# Altium integrated library National Semiconductor Switcher.IntLib: 2226 symbols (part 26 of 59)
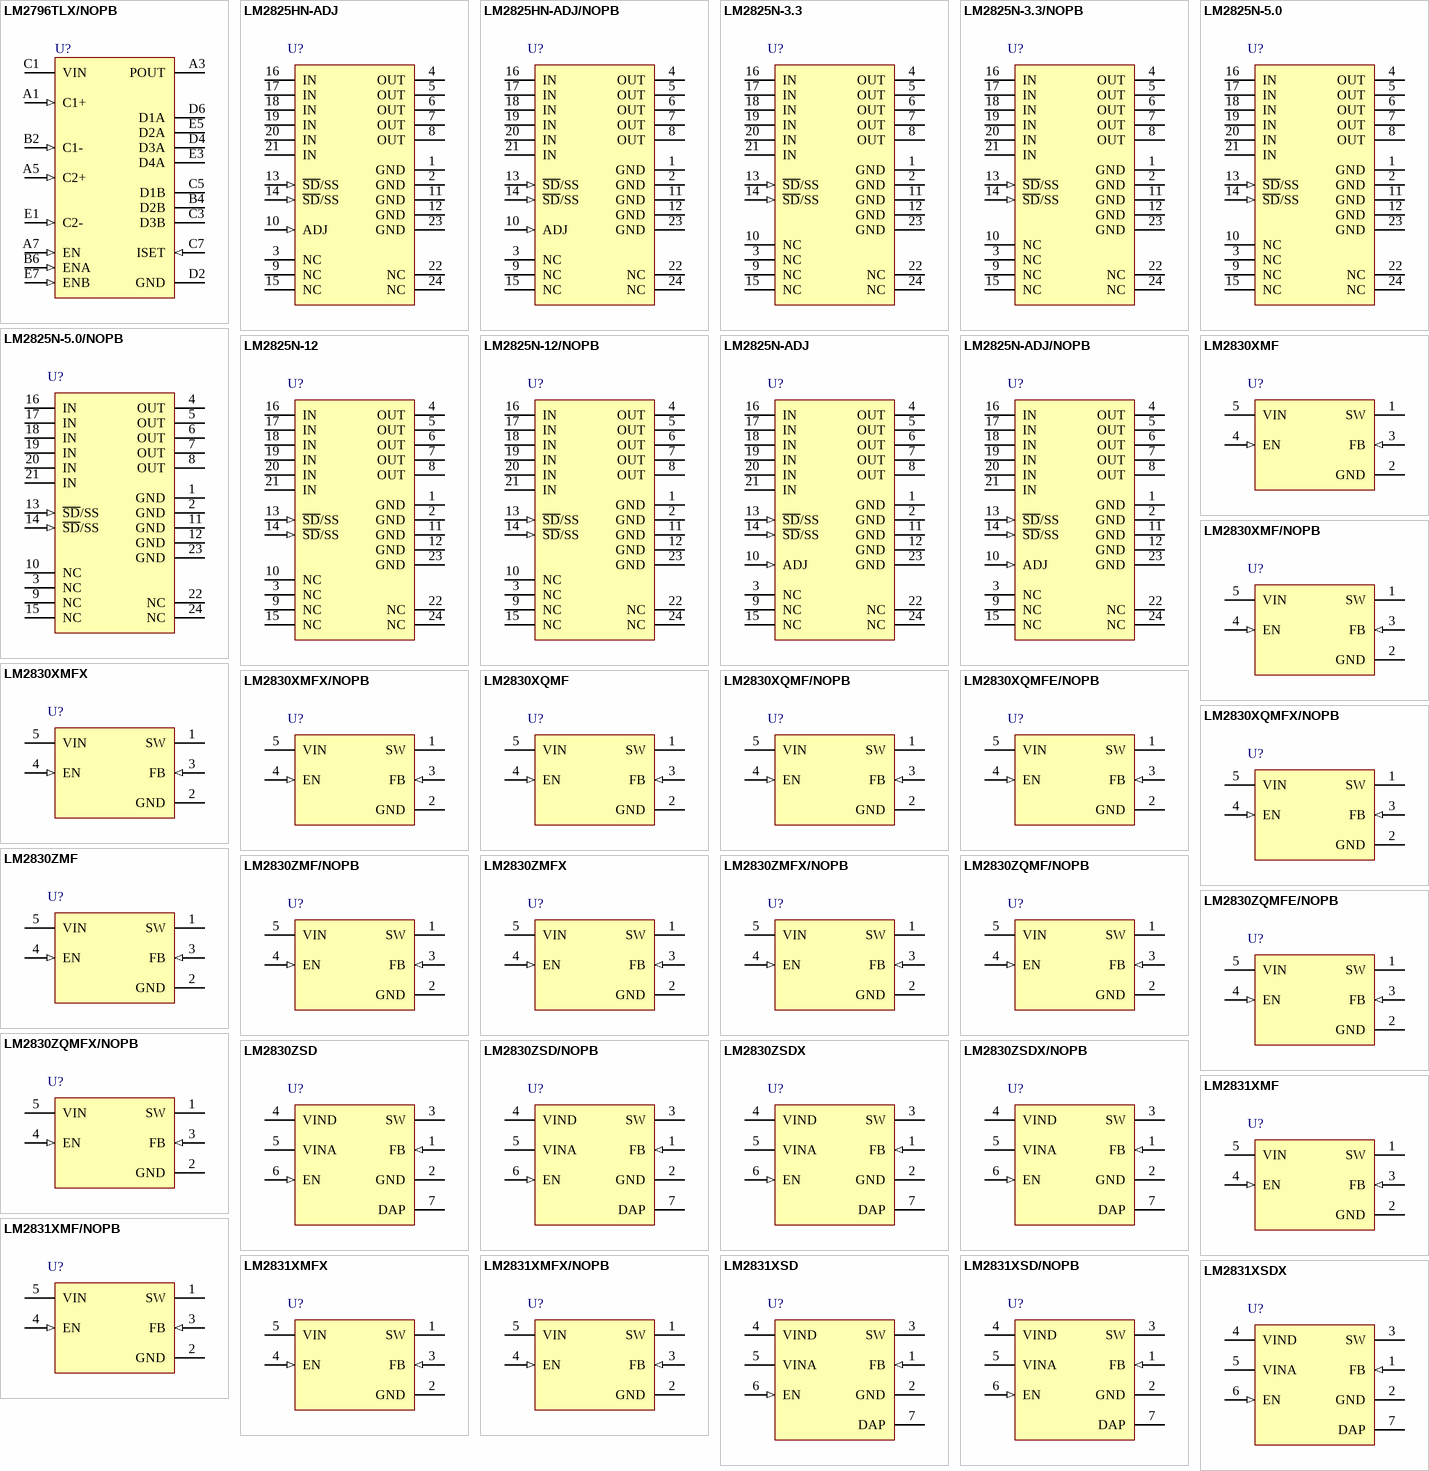
[diagram p94: symbols LM2796TLX/NOPB to LM2831XSDX]

## LM2825N-ADJ/NOPB
designator U?
Integrated Power Supply 1A DC-DC Converter, 24-pin MDIP, Pb-Free; PartNumber: LM2825N-ADJ/NOPB; Manufacturer: National Semiconductor; PackageTopMarking: @SIMPLE SWITCHERTM*ZXXYYTT*LM2825N-ADJ*ADJ, 1A OUTPUT; PowerWise: N; CompType: Switcher; High-Reliability: Y; DatasheetVersion: May-1997; PackageVersion: revD, Feb-1996; PackageReference: NA24F; PackageDescription: Molded Dip, 24 Lead, IPS1; RoHS: Y; PinCount: 24; ComponentLink1Description: Manufacturer URL; ComponentLink1URL: http://www.national.com/; ComponentLink2Description: LM2825 Datasheet; ComponentLink2URL: http://www.national.com/ds/LM/LM2825.pdf; ComponentLink3Description: LM2825 Web Page; ComponentLink3URL: http://www.national.com/pf/LM/LM2825.html; ComponentLink4Description: NA24F Package Page; ComponentLink4URL: http://www.national.com/packaging/folders/na24f.html
footprint NA24F (DIP, 24-Leads, Row Spacing 15.24mm, Pitch 2.54mm, Body 31.75x13.72mm)
pins: 1 GND (power), 2 GND (power), 3 NC, 4 OUT (power), 5 OUT (power), 6 OUT (power), 7 OUT (power), 8 OUT (power), 9 NC, 10 ADJ (in), 11 GND (power), 12 GND (power), 13 ~{SD}/SS (in), 14 ~{SD}/SS (in), 15 NC, 16 IN (power), 17 IN (power), 18 IN (power), 19 IN (power), 20 IN (power), 21 IN (power), 22 NC, 23 GND (power), 24 NC

## LM2830XMF
designator U?
High Frequency 1.0A Load - Step-Down DC-DC Regulator, 5-pin SOT-23; PartNumber: LM2830XMF; Manufacturer: National Semiconductor; PackageTopMarking: SKTB*XTT; PowerWise: N; CompType: Switcher; High-Reliability: Y; DatasheetVersion: Dec-2010; PackageVersion: revD, Aug-2008; PackageReference: MF05A; PackageDescription: Molded SOT-23, .115 x .063 x .040 in Body, 5 Lead, .0375 in Pitch; RoHS: N; PinCount: 5; ComponentLink1Description: Manufacturer URL; ComponentLink1URL: http://www.national.com/; ComponentLink2Description: LM2830 Datasheet; ComponentLink2URL: http://www.national.com/ds/LM/LM2830.pdf; ComponentLink3Description: LM2830 Web Page; ComponentLink3URL: http://www.national.com/pf/LM/LM2830.html; ComponentLink4Description: MF05A Package Page; ComponentLink4URL: http://www.national.com/packaging/folders/mf05a.html
footprint MF05A_N (SOT23, 5-Leads, Body 2.9x1.6mm, Pitch 0.95mm, Lead Span 2.8mm, IPC Medium Density)
footprint MF05A_L (SOT23, 5-Leads, Body 2.9x1.6mm, Pitch 0.95mm, Lead Span 2.8mm, IPC High Density)
footprint MF05A_M (SOT23, 5-Leads, Body 2.9x1.6mm, Pitch 0.95mm, Lead Span 2.8mm, IPC Low Density)
pins: 1 SW (power), 2 GND (power), 3 FB (in), 4 EN (in), 5 VIN (power)

## LM2830XMF/NOPB
designator U?
High Frequency 1.0A Load - Step-Down DC-DC Regulator, 5-pin SOT-23, Pb-Free; PartNumber: LM2830XMF/NOPB; Manufacturer: National Semiconductor; PackageTopMarking: SKTB*XTT; PowerWise: N; CompType: Switcher; High-Reliability: Y; DatasheetVersion: Dec-2010; PackageVersion: revD, Aug-2008; PackageReference: MF05A; PackageDescription: Molded SOT-23, .115 x .063 x .040 in Body, 5 Lead, .0375 in Pitch; RoHS: Y; PinCount: 5; ComponentLink1Description: Manufacturer URL; ComponentLink1URL: http://www.national.com/; ComponentLink2Description: LM2830 Datasheet; ComponentLink2URL: http://www.national.com/ds/LM/LM2830.pdf; ComponentLink3Description: LM2830 Web Page; ComponentLink3URL: http://www.national.com/pf/LM/LM2830.html; ComponentLink4Description: MF05A Package Page; ComponentLink4URL: http://www.national.com/packaging/folders/mf05a.html
footprint MF05A_N (SOT23, 5-Leads, Body 2.9x1.6mm, Pitch 0.95mm, Lead Span 2.8mm, IPC Medium Density)
footprint MF05A_L (SOT23, 5-Leads, Body 2.9x1.6mm, Pitch 0.95mm, Lead Span 2.8mm, IPC High Density)
footprint MF05A_M (SOT23, 5-Leads, Body 2.9x1.6mm, Pitch 0.95mm, Lead Span 2.8mm, IPC Low Density)
pins: 1 SW (power), 2 GND (power), 3 FB (in), 4 EN (in), 5 VIN (power)

## LM2830XMFX
designator U?
High Frequency 1.0A Load - Step-Down DC-DC Regulator, 5-pin SOT-23; PartNumber: LM2830XMFX; Manufacturer: National Semiconductor; PackageTopMarking: SKTB*XTT; PowerWise: N; CompType: Switcher; High-Reliability: Y; DatasheetVersion: Dec-2010; PackageVersion: revD, Aug-2008; PackageReference: MF05A; PackageDescription: Molded SOT-23, .115 x .063 x .040 in Body, 5 Lead, .0375 in Pitch; RoHS: N; PinCount: 5; ComponentLink1Description: Manufacturer URL; ComponentLink1URL: http://www.national.com/; ComponentLink2Description: LM2830 Datasheet; ComponentLink2URL: http://www.national.com/ds/LM/LM2830.pdf; ComponentLink3Description: LM2830 Web Page; ComponentLink3URL: http://www.national.com/pf/LM/LM2830.html; ComponentLink4Description: MF05A Package Page; ComponentLink4URL: http://www.national.com/packaging/folders/mf05a.html
footprint MF05A_N (SOT23, 5-Leads, Body 2.9x1.6mm, Pitch 0.95mm, Lead Span 2.8mm, IPC Medium Density)
footprint MF05A_L (SOT23, 5-Leads, Body 2.9x1.6mm, Pitch 0.95mm, Lead Span 2.8mm, IPC High Density)
footprint MF05A_M (SOT23, 5-Leads, Body 2.9x1.6mm, Pitch 0.95mm, Lead Span 2.8mm, IPC Low Density)
pins: 1 SW (power), 2 GND (power), 3 FB (in), 4 EN (in), 5 VIN (power)

## LM2830XMFX/NOPB
designator U?
High Frequency 1.0A Load - Step-Down DC-DC Regulator, 5-pin SOT-23, Pb-Free; PartNumber: LM2830XMFX/NOPB; Manufacturer: National Semiconductor; PackageTopMarking: SKTB*XTT; PowerWise: N; CompType: Switcher; High-Reliability: Y; DatasheetVersion: Dec-2010; PackageVersion: revD, Aug-2008; PackageReference: MF05A; PackageDescription: Molded SOT-23, .115 x .063 x .040 in Body, 5 Lead, .0375 in Pitch; RoHS: Y; PinCount: 5; ComponentLink1Description: Manufacturer URL; ComponentLink1URL: http://www.national.com/; ComponentLink2Description: LM2830 Datasheet; ComponentLink2URL: http://www.national.com/ds/LM/LM2830.pdf; ComponentLink3Description: LM2830 Web Page; ComponentLink3URL: http://www.national.com/pf/LM/LM2830.html; ComponentLink4Description: MF05A Package Page; ComponentLink4URL: http://www.national.com/packaging/folders/mf05a.html
footprint MF05A_N (SOT23, 5-Leads, Body 2.9x1.6mm, Pitch 0.95mm, Lead Span 2.8mm, IPC Medium Density)
footprint MF05A_L (SOT23, 5-Leads, Body 2.9x1.6mm, Pitch 0.95mm, Lead Span 2.8mm, IPC High Density)
footprint MF05A_M (SOT23, 5-Leads, Body 2.9x1.6mm, Pitch 0.95mm, Lead Span 2.8mm, IPC Low Density)
pins: 1 SW (power), 2 GND (power), 3 FB (in), 4 EN (in), 5 VIN (power)

## LM2830XQMF
designator U?
High Frequency 1.0A Load - Step-Down DC-DC Regulator, 5-pin SOT-23; PartNumber: LM2830XQMF; Manufacturer: National Semiconductor; PackageTopMarking: SUFB*XTT; PowerWise: N; CompType: Switcher; High-Reliability: Y; DatasheetVersion: Dec-2010; PackageVersion: revD, Aug-2008; PackageReference: MF05A; PackageDescription: Molded SOT-23, .115 x .063 x .040 in Body, 5 Lead, .0375 in Pitch; RoHS: Y; PinCount: 5; ComponentLink1Description: Manufacturer URL; ComponentLink1URL: http://www.national.com/; ComponentLink2Description: LM2830 Datasheet; ComponentLink2URL: http://www.national.com/ds/LM/LM2830.pdf; ComponentLink3Description: LM2830 Web Page; ComponentLink3URL: http://www.national.com/pf/LM/LM2830.html; ComponentLink4Description: MF05A Package Page; ComponentLink4URL: http://www.national.com/packaging/folders/mf05a.html
footprint MF05A_N (SOT23, 5-Leads, Body 2.9x1.6mm, Pitch 0.95mm, Lead Span 2.8mm, IPC Medium Density)
footprint MF05A_L (SOT23, 5-Leads, Body 2.9x1.6mm, Pitch 0.95mm, Lead Span 2.8mm, IPC High Density)
footprint MF05A_M (SOT23, 5-Leads, Body 2.9x1.6mm, Pitch 0.95mm, Lead Span 2.8mm, IPC Low Density)
pins: 1 SW (power), 2 GND (power), 3 FB (in), 4 EN (in), 5 VIN (power)

## LM2830XQMF/NOPB
designator U?
High Frequency 1.0A Load - Step-Down DC-DC Regulator, 5-pin SOT-23, Pb-Free; PartNumber: LM2830XQMF/NOPB; Manufacturer: National Semiconductor; PackageTopMarking: SUFB*XTT; PowerWise: N; CompType: Switcher; High-Reliability: Y; DatasheetVersion: Dec-2010; PackageVersion: revD, Aug-2008; PackageReference: MF05A; PackageDescription: Molded SOT-23, .115 x .063 x .040 in Body, 5 Lead, .0375 in Pitch; RoHS: Y; PinCount: 5; ComponentLink1Description: Manufacturer URL; ComponentLink1URL: http://www.national.com/; ComponentLink2Description: LM2830 Datasheet; ComponentLink2URL: http://www.national.com/ds/LM/LM2830.pdf; ComponentLink3Description: LM2830 Web Page; ComponentLink3URL: http://www.national.com/pf/LM/LM2830.html; ComponentLink4Description: MF05A Package Page; ComponentLink4URL: http://www.national.com/packaging/folders/mf05a.html
footprint MF05A_N (SOT23, 5-Leads, Body 2.9x1.6mm, Pitch 0.95mm, Lead Span 2.8mm, IPC Medium Density)
footprint MF05A_L (SOT23, 5-Leads, Body 2.9x1.6mm, Pitch 0.95mm, Lead Span 2.8mm, IPC High Density)
footprint MF05A_M (SOT23, 5-Leads, Body 2.9x1.6mm, Pitch 0.95mm, Lead Span 2.8mm, IPC Low Density)
pins: 1 SW (power), 2 GND (power), 3 FB (in), 4 EN (in), 5 VIN (power)

## LM2830XQMFE/NOPB
designator U?
High Frequency 1.0A Load - Step-Down DC-DC Regulator, 5-pin SOT-23, Pb-Free; PartNumber: LM2830XQMFE/NOPB; Manufacturer: National Semiconductor; PackageTopMarking: SUFB*XTT; PowerWise: N; CompType: Switcher; High-Reliability: Y; DatasheetVersion: Dec-2010; PackageVersion: revD, Aug-2008; PackageReference: MF05A; PackageDescription: Molded SOT-23, .115 x .063 x .040 in Body, 5 Lead, .0375 in Pitch; RoHS: Y; PinCount: 5; ComponentLink1Description: Manufacturer URL; ComponentLink1URL: http://www.national.com/; ComponentLink2Description: LM2830 Datasheet; ComponentLink2URL: http://www.national.com/ds/LM/LM2830.pdf; ComponentLink3Description: LM2830 Web Page; ComponentLink3URL: http://www.national.com/pf/LM/LM2830.html; ComponentLink4Description: MF05A Package Page; ComponentLink4URL: http://www.national.com/packaging/folders/mf05a.html
footprint MF05A_N (SOT23, 5-Leads, Body 2.9x1.6mm, Pitch 0.95mm, Lead Span 2.8mm, IPC Medium Density)
footprint MF05A_L (SOT23, 5-Leads, Body 2.9x1.6mm, Pitch 0.95mm, Lead Span 2.8mm, IPC High Density)
footprint MF05A_M (SOT23, 5-Leads, Body 2.9x1.6mm, Pitch 0.95mm, Lead Span 2.8mm, IPC Low Density)
pins: 1 SW (power), 2 GND (power), 3 FB (in), 4 EN (in), 5 VIN (power)

## LM2830XQMFX/NOPB
designator U?
High Frequency 1.0A Load - Step-Down DC-DC Regulator, 5-pin SOT-23, Pb-Free; PartNumber: LM2830XQMFX/NOPB; Manufacturer: National Semiconductor; PackageTopMarking: SUFB*XTT; PowerWise: N; CompType: Switcher; High-Reliability: Y; DatasheetVersion: Dec-2010; PackageVersion: revD, Aug-2008; PackageReference: MF05A; PackageDescription: Molded SOT-23, .115 x .063 x .040 in Body, 5 Lead, .0375 in Pitch; RoHS: Y; PinCount: 5; ComponentLink1Description: Manufacturer URL; ComponentLink1URL: http://www.national.com/; ComponentLink2Description: LM2830 Datasheet; ComponentLink2URL: http://www.national.com/ds/LM/LM2830.pdf; ComponentLink3Description: LM2830 Web Page; ComponentLink3URL: http://www.national.com/pf/LM/LM2830.html; ComponentLink4Description: MF05A Package Page; ComponentLink4URL: http://www.national.com/packaging/folders/mf05a.html
footprint MF05A_N (SOT23, 5-Leads, Body 2.9x1.6mm, Pitch 0.95mm, Lead Span 2.8mm, IPC Medium Density)
footprint MF05A_L (SOT23, 5-Leads, Body 2.9x1.6mm, Pitch 0.95mm, Lead Span 2.8mm, IPC High Density)
footprint MF05A_M (SOT23, 5-Leads, Body 2.9x1.6mm, Pitch 0.95mm, Lead Span 2.8mm, IPC Low Density)
pins: 1 SW (power), 2 GND (power), 3 FB (in), 4 EN (in), 5 VIN (power)

## LM2830ZMF
designator U?
High Frequency 1.0A Load - Step-Down DC-DC Regulator, 5-pin SOT-23; PartNumber: LM2830ZMF; Manufacturer: National Semiconductor; PackageTopMarking: SKXB*XTT; PowerWise: N; CompType: Switcher; High-Reliability: Y; DatasheetVersion: Dec-2010; PackageVersion: revD, Aug-2008; PackageReference: MF05A; PackageDescription: Molded SOT-23, .115 x .063 x .040 in Body, 5 Lead, .0375 in Pitch; RoHS: N; PinCount: 5; ComponentLink1Description: Manufacturer URL; ComponentLink1URL: http://www.national.com/; ComponentLink2Description: LM2830 Datasheet; ComponentLink2URL: http://www.national.com/ds/LM/LM2830.pdf; ComponentLink3Description: LM2830 Web Page; ComponentLink3URL: http://www.national.com/pf/LM/LM2830.html; ComponentLink4Description: MF05A Package Page; ComponentLink4URL: http://www.national.com/packaging/folders/mf05a.html
footprint MF05A_N (SOT23, 5-Leads, Body 2.9x1.6mm, Pitch 0.95mm, Lead Span 2.8mm, IPC Medium Density)
footprint MF05A_L (SOT23, 5-Leads, Body 2.9x1.6mm, Pitch 0.95mm, Lead Span 2.8mm, IPC High Density)
footprint MF05A_M (SOT23, 5-Leads, Body 2.9x1.6mm, Pitch 0.95mm, Lead Span 2.8mm, IPC Low Density)
pins: 1 SW (power), 2 GND (power), 3 FB (in), 4 EN (in), 5 VIN (power)

## LM2830ZMF/NOPB
designator U?
High Frequency 1.0A Load - Step-Down DC-DC Regulator, 5-pin SOT-23, Pb-Free; PartNumber: LM2830ZMF/NOPB; Manufacturer: National Semiconductor; PackageTopMarking: SKXB*XTT; PowerWise: N; CompType: Switcher; High-Reliability: Y; DatasheetVersion: Dec-2010; PackageVersion: revD, Aug-2008; PackageReference: MF05A; PackageDescription: Molded SOT-23, .115 x .063 x .040 in Body, 5 Lead, .0375 in Pitch; RoHS: Y; PinCount: 5; ComponentLink1Description: Manufacturer URL; ComponentLink1URL: http://www.national.com/; ComponentLink2Description: LM2830 Datasheet; ComponentLink2URL: http://www.national.com/ds/LM/LM2830.pdf; ComponentLink3Description: LM2830 Web Page; ComponentLink3URL: http://www.national.com/pf/LM/LM2830.html; ComponentLink4Description: MF05A Package Page; ComponentLink4URL: http://www.national.com/packaging/folders/mf05a.html
footprint MF05A_N (SOT23, 5-Leads, Body 2.9x1.6mm, Pitch 0.95mm, Lead Span 2.8mm, IPC Medium Density)
footprint MF05A_L (SOT23, 5-Leads, Body 2.9x1.6mm, Pitch 0.95mm, Lead Span 2.8mm, IPC High Density)
footprint MF05A_M (SOT23, 5-Leads, Body 2.9x1.6mm, Pitch 0.95mm, Lead Span 2.8mm, IPC Low Density)
pins: 1 SW (power), 2 GND (power), 3 FB (in), 4 EN (in), 5 VIN (power)

## LM2830ZMFX
designator U?
High Frequency 1.0A Load - Step-Down DC-DC Regulator, 5-pin SOT-23; PartNumber: LM2830ZMFX; Manufacturer: National Semiconductor; PackageTopMarking: SKXB*XTT; PowerWise: N; CompType: Switcher; High-Reliability: Y; DatasheetVersion: Dec-2010; PackageVersion: revD, Aug-2008; PackageReference: MF05A; PackageDescription: Molded SOT-23, .115 x .063 x .040 in Body, 5 Lead, .0375 in Pitch; RoHS: N; PinCount: 5; ComponentLink1Description: Manufacturer URL; ComponentLink1URL: http://www.national.com/; ComponentLink2Description: LM2830 Datasheet; ComponentLink2URL: http://www.national.com/ds/LM/LM2830.pdf; ComponentLink3Description: LM2830 Web Page; ComponentLink3URL: http://www.national.com/pf/LM/LM2830.html; ComponentLink4Description: MF05A Package Page; ComponentLink4URL: http://www.national.com/packaging/folders/mf05a.html
footprint MF05A_N (SOT23, 5-Leads, Body 2.9x1.6mm, Pitch 0.95mm, Lead Span 2.8mm, IPC Medium Density)
footprint MF05A_L (SOT23, 5-Leads, Body 2.9x1.6mm, Pitch 0.95mm, Lead Span 2.8mm, IPC High Density)
footprint MF05A_M (SOT23, 5-Leads, Body 2.9x1.6mm, Pitch 0.95mm, Lead Span 2.8mm, IPC Low Density)
pins: 1 SW (power), 2 GND (power), 3 FB (in), 4 EN (in), 5 VIN (power)

## LM2830ZMFX/NOPB
designator U?
High Frequency 1.0A Load - Step-Down DC-DC Regulator, 5-pin SOT-23, Pb-Free; PartNumber: LM2830ZMFX/NOPB; Manufacturer: National Semiconductor; PackageTopMarking: SKXB*XTT; PowerWise: N; CompType: Switcher; High-Reliability: Y; DatasheetVersion: Dec-2010; PackageVersion: revD, Aug-2008; PackageReference: MF05A; PackageDescription: Molded SOT-23, .115 x .063 x .040 in Body, 5 Lead, .0375 in Pitch; RoHS: Y; PinCount: 5; ComponentLink1Description: Manufacturer URL; ComponentLink1URL: http://www.national.com/; ComponentLink2Description: LM2830 Datasheet; ComponentLink2URL: http://www.national.com/ds/LM/LM2830.pdf; ComponentLink3Description: LM2830 Web Page; ComponentLink3URL: http://www.national.com/pf/LM/LM2830.html; ComponentLink4Description: MF05A Package Page; ComponentLink4URL: http://www.national.com/packaging/folders/mf05a.html
footprint MF05A_N (SOT23, 5-Leads, Body 2.9x1.6mm, Pitch 0.95mm, Lead Span 2.8mm, IPC Medium Density)
footprint MF05A_L (SOT23, 5-Leads, Body 2.9x1.6mm, Pitch 0.95mm, Lead Span 2.8mm, IPC High Density)
footprint MF05A_M (SOT23, 5-Leads, Body 2.9x1.6mm, Pitch 0.95mm, Lead Span 2.8mm, IPC Low Density)
pins: 1 SW (power), 2 GND (power), 3 FB (in), 4 EN (in), 5 VIN (power)

## LM2830ZQMF/NOPB
designator U?
High Frequency 1.0A Load - Step-Down DC-DC Regulator, AEC-Q100 Grade 1, 5-pin SOT-23, 1000 Reel; PartNumber: LM2830ZQMF/NOPB; Manufacturer: National Semiconductor; PackageTopMarking: SURB*XTT; PowerWise: N; CompType: Switcher; High-Reliability: Y; DatasheetVersion: Dec-2010; PackageVersion: revD, Aug-2008; PackageReference: MF05A; PackageDescription: Molded SOT-23, .115 x .063 x .040 in Body, 5 Lead, .0375 in Pitch; RoHS: Y; PinCount: 5; ComponentLink1Description: Manufacturer URL; ComponentLink1URL: http://www.national.com/; ComponentLink2Description: LM2830 Datasheet; ComponentLink2URL: http://www.national.com/ds/LM/LM2830.pdf; ComponentLink3Description: LM2830 Web Page; ComponentLink3URL: http://www.national.com/pf/LM/LM2830.html; ComponentLink4Description: MF05A Package Page; ComponentLink4URL: http://www.national.com/packaging/folders/mf05a.html
footprint MF05A_N (SOT23, 5-Leads, Body 2.9x1.6mm, Pitch 0.95mm, Lead Span 2.8mm, IPC Medium Density)
footprint MF05A_L (SOT23, 5-Leads, Body 2.9x1.6mm, Pitch 0.95mm, Lead Span 2.8mm, IPC High Density)
footprint MF05A_M (SOT23, 5-Leads, Body 2.9x1.6mm, Pitch 0.95mm, Lead Span 2.8mm, IPC Low Density)
pins: 1 SW (power), 2 GND (power), 3 FB (in), 4 EN (in), 5 VIN (power)

## LM2830ZQMFE/NOPB
designator U?
High Frequency 1.0A Load - Step-Down DC-DC Regulator, AEC-Q100 Grade 1, 5-pin SOT-23, 250 Reel; PartNumber: LM2830ZQMFE/NOPB; Manufacturer: National Semiconductor; PackageTopMarking: SURB*XTT; PowerWise: N; CompType: Switcher; High-Reliability: Y; DatasheetVersion: Dec-2010; PackageVersion: revD, Aug-2008; PackageReference: MF05A; PackageDescription: Molded SOT-23, .115 x .063 x .040 in Body, 5 Lead, .0375 in Pitch; RoHS: Y; PinCount: 5; ComponentLink1Description: Manufacturer URL; ComponentLink1URL: http://www.national.com/; ComponentLink2Description: LM2830 Datasheet; ComponentLink2URL: http://www.national.com/ds/LM/LM2830.pdf; ComponentLink3Description: LM2830 Web Page; ComponentLink3URL: http://www.national.com/pf/LM/LM2830.html; ComponentLink4Description: MF05A Package Page; ComponentLink4URL: http://www.national.com/packaging/folders/mf05a.html
footprint MF05A_N (SOT23, 5-Leads, Body 2.9x1.6mm, Pitch 0.95mm, Lead Span 2.8mm, IPC Medium Density)
footprint MF05A_L (SOT23, 5-Leads, Body 2.9x1.6mm, Pitch 0.95mm, Lead Span 2.8mm, IPC High Density)
footprint MF05A_M (SOT23, 5-Leads, Body 2.9x1.6mm, Pitch 0.95mm, Lead Span 2.8mm, IPC Low Density)
pins: 1 SW (power), 2 GND (power), 3 FB (in), 4 EN (in), 5 VIN (power)

## LM2830ZQMFX/NOPB
designator U?
High Frequency 1.0A Load - Step-Down DC-DC Regulator, AEC-Q100 Grade 1, 5-pin SOT-23, 3000 Reel; PartNumber: LM2830ZQMFX/NOPB; Manufacturer: National Semiconductor; PackageTopMarking: SURB*XTT; PowerWise: N; CompType: Switcher; High-Reliability: Y; DatasheetVersion: Dec-2010; PackageVersion: revD, Aug-2008; PackageReference: MF05A; PackageDescription: Molded SOT-23, .115 x .063 x .040 in Body, 5 Lead, .0375 in Pitch; RoHS: Y; PinCount: 5; ComponentLink1Description: Manufacturer URL; ComponentLink1URL: http://www.national.com/; ComponentLink2Description: LM2830 Datasheet; ComponentLink2URL: http://www.national.com/ds/LM/LM2830.pdf; ComponentLink3Description: LM2830 Web Page; ComponentLink3URL: http://www.national.com/pf/LM/LM2830.html; ComponentLink4Description: MF05A Package Page; ComponentLink4URL: http://www.national.com/packaging/folders/mf05a.html
footprint MF05A_N (SOT23, 5-Leads, Body 2.9x1.6mm, Pitch 0.95mm, Lead Span 2.8mm, IPC Medium Density)
footprint MF05A_L (SOT23, 5-Leads, Body 2.9x1.6mm, Pitch 0.95mm, Lead Span 2.8mm, IPC High Density)
footprint MF05A_M (SOT23, 5-Leads, Body 2.9x1.6mm, Pitch 0.95mm, Lead Span 2.8mm, IPC Low Density)
pins: 1 SW (power), 2 GND (power), 3 FB (in), 4 EN (in), 5 VIN (power)

## LM2830ZSD
designator U?
High Frequency 1.0A Load - Step-Down DC-DC Regulator, 6-pin LLP; PartNumber: LM2830ZSD; Manufacturer: National Semiconductor; PackageTopMarking: ZXYTT*L192B; PowerWise: N; CompType: Switcher; High-Reliability: Y; DatasheetVersion: Dec-2010; PackageVersion: revA, Jul-2003; PackageReference: SDE06A; PackageDescription: LLP, Plastic, Dual, 3 x 3 x 0.8mm Body, 6 Lead, 0.95mm Pitch, No Pullback; RoHS: N; PinCount: 6; ComponentLink1Description: Manufacturer URL; ComponentLink1URL: http://www.national.com/; ComponentLink2Description: LM2830 Datasheet; ComponentLink2URL: http://www.national.com/ds/LM/LM2830.pdf; ComponentLink3Description: LM2830 Web Page; ComponentLink3URL: http://www.national.com/pf/LM/LM2830.html; ComponentLink4Description: SDE06A Package Page; ComponentLink4URL: http://www.national.com/packaging/folders/sde06a.html
footprint SDE06A_full (SON, 6-Leads, Body 3x3 mm, Pitch 0.95mm, Full Paste, NSC Recommended)
footprint SDE06A_quad (SON, 6-Leads, Body 3x3 mm, Pitch 0.95mm, Quad Paste, NSC Recommended)
pins: 1 FB (in), 2 GND (power), 3 SW (power), 4 VIND (power), 5 VINA (power), 6 EN (in), 7 DAP

## LM2830ZSD/NOPB
designator U?
High Frequency 1.0A Load - Step-Down DC-DC Regulator, 6-pin LLP, Pb-Free; PartNumber: LM2830ZSD/NOPB; Manufacturer: National Semiconductor; PackageTopMarking: ZXYTT*L192B; PowerWise: N; CompType: Switcher; High-Reliability: Y; DatasheetVersion: Dec-2010; PackageVersion: revA, Jul-2003; PackageReference: SDE06A; PackageDescription: LLP, Plastic, Dual, 3 x 3 x 0.8mm Body, 6 Lead, 0.95mm Pitch, No Pullback; RoHS: Y; PinCount: 6; ComponentLink1Description: Manufacturer URL; ComponentLink1URL: http://www.national.com/; ComponentLink2Description: LM2830 Datasheet; ComponentLink2URL: http://www.national.com/ds/LM/LM2830.pdf; ComponentLink3Description: LM2830 Web Page; ComponentLink3URL: http://www.national.com/pf/LM/LM2830.html; ComponentLink4Description: SDE06A Package Page; ComponentLink4URL: http://www.national.com/packaging/folders/sde06a.html
footprint SDE06A_full (SON, 6-Leads, Body 3x3 mm, Pitch 0.95mm, Full Paste, NSC Recommended)
footprint SDE06A_quad (SON, 6-Leads, Body 3x3 mm, Pitch 0.95mm, Quad Paste, NSC Recommended)
pins: 1 FB (in), 2 GND (power), 3 SW (power), 4 VIND (power), 5 VINA (power), 6 EN (in), 7 DAP

## LM2830ZSDX
designator U?
High Frequency 1.0A Load - Step-Down DC-DC Regulator, 6-pin LLP; PartNumber: LM2830ZSDX; Manufacturer: National Semiconductor; PackageTopMarking: ZXYTT*L192B; PowerWise: N; CompType: Switcher; High-Reliability: Y; DatasheetVersion: Dec-2010; PackageVersion: revA, Jul-2003; PackageReference: SDE06A; PackageDescription: LLP, Plastic, Dual, 3 x 3 x 0.8mm Body, 6 Lead, 0.95mm Pitch, No Pullback; RoHS: N; PinCount: 6; ComponentLink1Description: Manufacturer URL; ComponentLink1URL: http://www.national.com/; ComponentLink2Description: LM2830 Datasheet; ComponentLink2URL: http://www.national.com/ds/LM/LM2830.pdf; ComponentLink3Description: LM2830 Web Page; ComponentLink3URL: http://www.national.com/pf/LM/LM2830.html; ComponentLink4Description: SDE06A Package Page; ComponentLink4URL: http://www.national.com/packaging/folders/sde06a.html
footprint SDE06A_full (SON, 6-Leads, Body 3x3 mm, Pitch 0.95mm, Full Paste, NSC Recommended)
footprint SDE06A_quad (SON, 6-Leads, Body 3x3 mm, Pitch 0.95mm, Quad Paste, NSC Recommended)
pins: 1 FB (in), 2 GND (power), 3 SW (power), 4 VIND (power), 5 VINA (power), 6 EN (in), 7 DAP

## LM2830ZSDX/NOPB
designator U?
High Frequency 1.0A Load - Step-Down DC-DC Regulator, 6-pin LLP, Pb-Free; PartNumber: LM2830ZSDX/NOPB; Manufacturer: National Semiconductor; PackageTopMarking: ZXYTT*L192B; PowerWise: N; CompType: Switcher; High-Reliability: Y; DatasheetVersion: Dec-2010; PackageVersion: revA, Jul-2003; PackageReference: SDE06A; PackageDescription: LLP, Plastic, Dual, 3 x 3 x 0.8mm Body, 6 Lead, 0.95mm Pitch, No Pullback; RoHS: Y; PinCount: 6; ComponentLink1Description: Manufacturer URL; ComponentLink1URL: http://www.national.com/; ComponentLink2Description: LM2830 Datasheet; ComponentLink2URL: http://www.national.com/ds/LM/LM2830.pdf; ComponentLink3Description: LM2830 Web Page; ComponentLink3URL: http://www.national.com/pf/LM/LM2830.html; ComponentLink4Description: SDE06A Package Page; ComponentLink4URL: http://www.national.com/packaging/folders/sde06a.html
footprint SDE06A_full (SON, 6-Leads, Body 3x3 mm, Pitch 0.95mm, Full Paste, NSC Recommended)
footprint SDE06A_quad (SON, 6-Leads, Body 3x3 mm, Pitch 0.95mm, Quad Paste, NSC Recommended)
pins: 1 FB (in), 2 GND (power), 3 SW (power), 4 VIND (power), 5 VINA (power), 6 EN (in), 7 DAP

## LM2831XMF
designator U?
High Frequency 1.5A Load - Step-Down DC-DC Regulator, 5-pin SOT-23; PartNumber: LM2831XMF; Manufacturer: National Semiconductor; PackageTopMarking: SKYB*XTT; PowerWise: N; CompType: Switcher; High-Reliability: Y; DatasheetVersion: Aug-2006; PackageVersion: revD, Aug-2008; PackageReference: MF05A; PackageDescription: Molded SOT-23, .115 x .063 x .040 in Body, 5 Lead, .0375 in Pitch; RoHS: N; PinCount: 5; ComponentLink1Description: Manufacturer URL; ComponentLink1URL: http://www.national.com/; ComponentLink2Description: LM2831 Datasheet; ComponentLink2URL: http://www.national.com/ds/LM/LM2831.pdf; ComponentLink3Description: LM2831 Web Page; ComponentLink3URL: http://www.national.com/pf/LM/LM2831.html; ComponentLink4Description: MF05A Package Page; ComponentLink4URL: http://www.national.com/packaging/folders/mf05a.html
footprint MF05A_N (SOT23, 5-Leads, Body 2.9x1.6mm, Pitch 0.95mm, Lead Span 2.8mm, IPC Medium Density)
footprint MF05A_L (SOT23, 5-Leads, Body 2.9x1.6mm, Pitch 0.95mm, Lead Span 2.8mm, IPC High Density)
footprint MF05A_M (SOT23, 5-Leads, Body 2.9x1.6mm, Pitch 0.95mm, Lead Span 2.8mm, IPC Low Density)
pins: 1 SW (power), 2 GND (power), 3 FB (in), 4 EN (in), 5 VIN (power)

## LM2831XMF/NOPB
designator U?
High Frequency 1.5A Load - Step-Down DC-DC Regulator, 5-pin SOT-23, Pb-Free; PartNumber: LM2831XMF/NOPB; Manufacturer: National Semiconductor; PackageTopMarking: SKYB*XTT; PowerWise: N; CompType: Switcher; High-Reliability: Y; DatasheetVersion: Aug-2006; PackageVersion: revD, Aug-2008; PackageReference: MF05A; PackageDescription: Molded SOT-23, .115 x .063 x .040 in Body, 5 Lead, .0375 in Pitch; RoHS: Y; PinCount: 5; ComponentLink1Description: Manufacturer URL; ComponentLink1URL: http://www.national.com/; ComponentLink2Description: LM2831 Datasheet; ComponentLink2URL: http://www.national.com/ds/LM/LM2831.pdf; ComponentLink3Description: LM2831 Web Page; ComponentLink3URL: http://www.national.com/pf/LM/LM2831.html; ComponentLink4Description: MF05A Package Page; ComponentLink4URL: http://www.national.com/packaging/folders/mf05a.html
footprint MF05A_N (SOT23, 5-Leads, Body 2.9x1.6mm, Pitch 0.95mm, Lead Span 2.8mm, IPC Medium Density)
footprint MF05A_L (SOT23, 5-Leads, Body 2.9x1.6mm, Pitch 0.95mm, Lead Span 2.8mm, IPC High Density)
footprint MF05A_M (SOT23, 5-Leads, Body 2.9x1.6mm, Pitch 0.95mm, Lead Span 2.8mm, IPC Low Density)
pins: 1 SW (power), 2 GND (power), 3 FB (in), 4 EN (in), 5 VIN (power)

## LM2831XMFX
designator U?
High Frequency 1.5A Load - Step-Down DC-DC Regulator, 5-pin SOT-23; PartNumber: LM2831XMFX; Manufacturer: National Semiconductor; PackageTopMarking: SKYB*XTT; PowerWise: N; CompType: Switcher; High-Reliability: Y; DatasheetVersion: Aug-2006; PackageVersion: revD, Aug-2008; PackageReference: MF05A; PackageDescription: Molded SOT-23, .115 x .063 x .040 in Body, 5 Lead, .0375 in Pitch; RoHS: N; PinCount: 5; ComponentLink1Description: Manufacturer URL; ComponentLink1URL: http://www.national.com/; ComponentLink2Description: LM2831 Datasheet; ComponentLink2URL: http://www.national.com/ds/LM/LM2831.pdf; ComponentLink3Description: LM2831 Web Page; ComponentLink3URL: http://www.national.com/pf/LM/LM2831.html; ComponentLink4Description: MF05A Package Page; ComponentLink4URL: http://www.national.com/packaging/folders/mf05a.html
footprint MF05A_N (SOT23, 5-Leads, Body 2.9x1.6mm, Pitch 0.95mm, Lead Span 2.8mm, IPC Medium Density)
footprint MF05A_L (SOT23, 5-Leads, Body 2.9x1.6mm, Pitch 0.95mm, Lead Span 2.8mm, IPC High Density)
footprint MF05A_M (SOT23, 5-Leads, Body 2.9x1.6mm, Pitch 0.95mm, Lead Span 2.8mm, IPC Low Density)
pins: 1 SW (power), 2 GND (power), 3 FB (in), 4 EN (in), 5 VIN (power)

## LM2831XMFX/NOPB
designator U?
High Frequency 1.5A Load - Step-Down DC-DC Regulator, 5-pin SOT-23, Pb-Free; PartNumber: LM2831XMFX/NOPB; Manufacturer: National Semiconductor; PackageTopMarking: SKYB*XTT; PowerWise: N; CompType: Switcher; High-Reliability: Y; DatasheetVersion: Aug-2006; PackageVersion: revD, Aug-2008; PackageReference: MF05A; PackageDescription: Molded SOT-23, .115 x .063 x .040 in Body, 5 Lead, .0375 in Pitch; RoHS: Y; PinCount: 5; ComponentLink1Description: Manufacturer URL; ComponentLink1URL: http://www.national.com/; ComponentLink2Description: LM2831 Datasheet; ComponentLink2URL: http://www.national.com/ds/LM/LM2831.pdf; ComponentLink3Description: LM2831 Web Page; ComponentLink3URL: http://www.national.com/pf/LM/LM2831.html; ComponentLink4Description: MF05A Package Page; ComponentLink4URL: http://www.national.com/packaging/folders/mf05a.html
footprint MF05A_N (SOT23, 5-Leads, Body 2.9x1.6mm, Pitch 0.95mm, Lead Span 2.8mm, IPC Medium Density)
footprint MF05A_L (SOT23, 5-Leads, Body 2.9x1.6mm, Pitch 0.95mm, Lead Span 2.8mm, IPC High Density)
footprint MF05A_M (SOT23, 5-Leads, Body 2.9x1.6mm, Pitch 0.95mm, Lead Span 2.8mm, IPC Low Density)
pins: 1 SW (power), 2 GND (power), 3 FB (in), 4 EN (in), 5 VIN (power)

## LM2831XSD
designator U?
High Frequency 1.5A Load - Step-Down DC-DC Regulator, 6-pin LLP; PartNumber: LM2831XSD; Manufacturer: National Semiconductor; PackageTopMarking: ZXYTT*L193B; PowerWise: N; CompType: Switcher; High-Reliability: Y; DatasheetVersion: Aug-2006; PackageVersion: revA, Jul-2003; PackageReference: SDE06A; PackageDescription: LLP, Plastic, Dual, 3 x 3 x 0.8mm Body, 6 Lead, 0.95mm Pitch, No Pullback; RoHS: N; PinCount: 6; ComponentLink1Description: Manufacturer URL; ComponentLink1URL: http://www.national.com/; ComponentLink2Description: LM2831 Datasheet; ComponentLink2URL: http://www.national.com/ds/LM/LM2831.pdf; ComponentLink3Description: LM2831 Web Page; ComponentLink3URL: http://www.national.com/pf/LM/LM2831.html; ComponentLink4Description: SDE06A Package Page; ComponentLink4URL: http://www.national.com/packaging/folders/sde06a.html
footprint SDE06A_full (SON, 6-Leads, Body 3x3 mm, Pitch 0.95mm, Full Paste, NSC Recommended)
footprint SDE06A_quad (SON, 6-Leads, Body 3x3 mm, Pitch 0.95mm, Quad Paste, NSC Recommended)
pins: 1 FB (in), 2 GND (power), 3 SW (power), 4 VIND (power), 5 VINA (power), 6 EN (in), 7 DAP

## LM2831XSD/NOPB
designator U?
High Frequency 1.5A Load - Step-Down DC-DC Regulator, 6-pin LLP, Pb-Free; PartNumber: LM2831XSD/NOPB; Manufacturer: National Semiconductor; PackageTopMarking: ZXYTT*L193B; PowerWise: N; CompType: Switcher; High-Reliability: Y; DatasheetVersion: Aug-2006; PackageVersion: revA, Jul-2003; PackageReference: SDE06A; PackageDescription: LLP, Plastic, Dual, 3 x 3 x 0.8mm Body, 6 Lead, 0.95mm Pitch, No Pullback; RoHS: Y; PinCount: 6; ComponentLink1Description: Manufacturer URL; ComponentLink1URL: http://www.national.com/; ComponentLink2Description: LM2831 Datasheet; ComponentLink2URL: http://www.national.com/ds/LM/LM2831.pdf; ComponentLink3Description: LM2831 Web Page; ComponentLink3URL: http://www.national.com/pf/LM/LM2831.html; ComponentLink4Description: SDE06A Package Page; ComponentLink4URL: http://www.national.com/packaging/folders/sde06a.html
footprint SDE06A_full (SON, 6-Leads, Body 3x3 mm, Pitch 0.95mm, Full Paste, NSC Recommended)
footprint SDE06A_quad (SON, 6-Leads, Body 3x3 mm, Pitch 0.95mm, Quad Paste, NSC Recommended)
pins: 1 FB (in), 2 GND (power), 3 SW (power), 4 VIND (power), 5 VINA (power), 6 EN (in), 7 DAP

## LM2831XSDX
designator U?
High Frequency 1.5A Load - Step-Down DC-DC Regulator, 6-pin LLP; PartNumber: LM2831XSDX; Manufacturer: National Semiconductor; PackageTopMarking: ZXYTT*L193B; PowerWise: N; CompType: Switcher; High-Reliability: Y; DatasheetVersion: Aug-2006; PackageVersion: revA, Jul-2003; PackageReference: SDE06A; PackageDescription: LLP, Plastic, Dual, 3 x 3 x 0.8mm Body, 6 Lead, 0.95mm Pitch, No Pullback; RoHS: N; PinCount: 6; ComponentLink1Description: Manufacturer URL; ComponentLink1URL: http://www.national.com/; ComponentLink2Description: LM2831 Datasheet; ComponentLink2URL: http://www.national.com/ds/LM/LM2831.pdf; ComponentLink3Description: LM2831 Web Page; ComponentLink3URL: http://www.national.com/pf/LM/LM2831.html; ComponentLink4Description: SDE06A Package Page; ComponentLink4URL: http://www.national.com/packaging/folders/sde06a.html
footprint SDE06A_full (SON, 6-Leads, Body 3x3 mm, Pitch 0.95mm, Full Paste, NSC Recommended)
footprint SDE06A_quad (SON, 6-Leads, Body 3x3 mm, Pitch 0.95mm, Quad Paste, NSC Recommended)
pins: 1 FB (in), 2 GND (power), 3 SW (power), 4 VIND (power), 5 VINA (power), 6 EN (in), 7 DAP

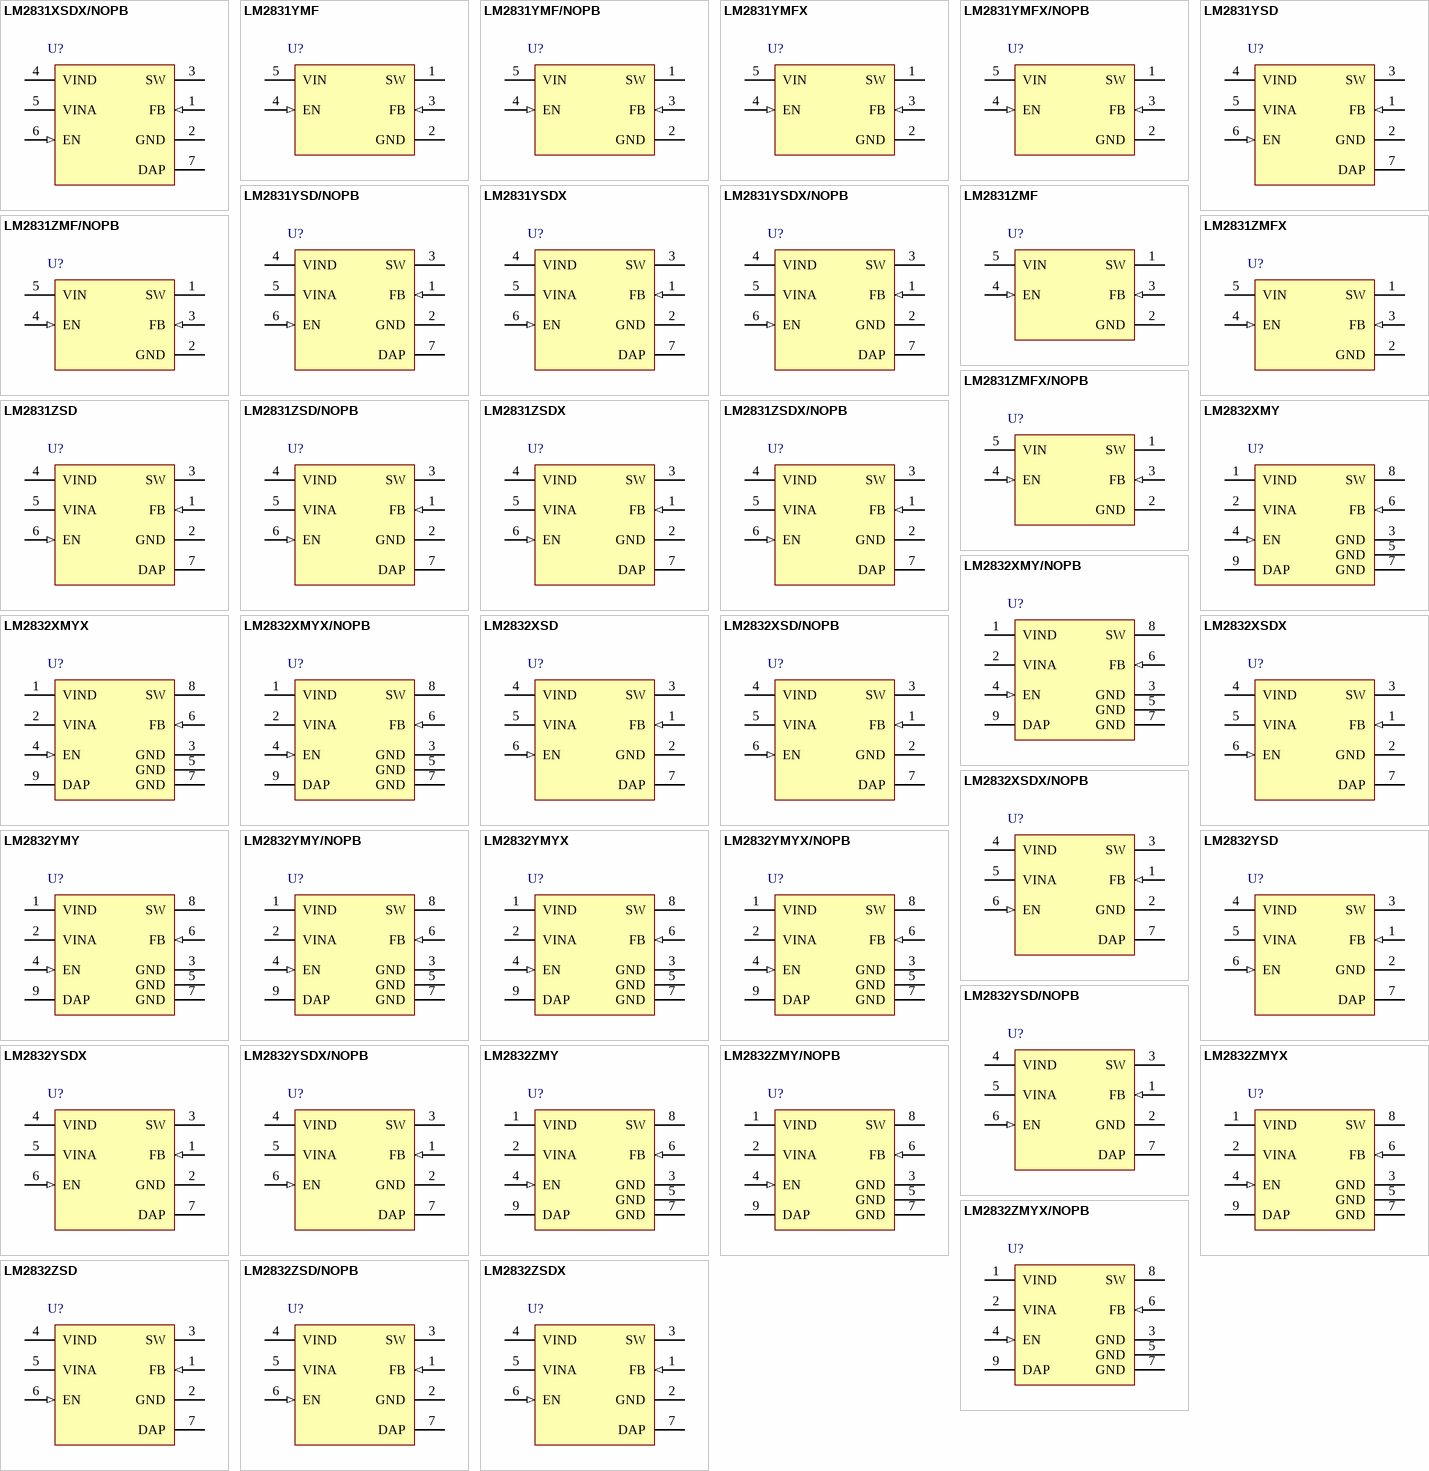
[diagram p28: symbols LM2831XSDX/NOPB to LM2832ZSDX]

## LM2831XSDX/NOPB
designator U?
High Frequency 1.5A Load - Step-Down DC-DC Regulator, 6-pin LLP, Pb-Free; PartNumber: LM2831XSDX/NOPB; Manufacturer: National Semiconductor; PackageTopMarking: ZXYTT*L193B; PowerWise: N; CompType: Switcher; High-Reliability: Y; DatasheetVersion: Aug-2006; PackageVersion: revA, Jul-2003; PackageReference: SDE06A; PackageDescription: LLP, Plastic, Dual, 3 x 3 x 0.8mm Body, 6 Lead, 0.95mm Pitch, No Pullback; RoHS: Y; PinCount: 6; ComponentLink1Description: Manufacturer URL; ComponentLink1URL: http://www.national.com/; ComponentLink2Description: LM2831 Datasheet; ComponentLink2URL: http://www.national.com/ds/LM/LM2831.pdf; ComponentLink3Description: LM2831 Web Page; ComponentLink3URL: http://www.national.com/pf/LM/LM2831.html; ComponentLink4Description: SDE06A Package Page; ComponentLink4URL: http://www.national.com/packaging/folders/sde06a.html
footprint SDE06A_full (SON, 6-Leads, Body 3x3 mm, Pitch 0.95mm, Full Paste, NSC Recommended)
footprint SDE06A_quad (SON, 6-Leads, Body 3x3 mm, Pitch 0.95mm, Quad Paste, NSC Recommended)
pins: 1 FB (in), 2 GND (power), 3 SW (power), 4 VIND (power), 5 VINA (power), 6 EN (in), 7 DAP

## LM2831YMF
designator U?
High Frequency 1.5A Load - Step-Down DC-DC Regulator, 5-pin SOT-23; PartNumber: LM2831YMF; Manufacturer: National Semiconductor; PackageTopMarking: SKZB*XTT; PowerWise: N; CompType: Switcher; High-Reliability: Y; DatasheetVersion: Aug-2006; PackageVersion: revD, Aug-2008; PackageReference: MF05A; PackageDescription: Molded SOT-23, .115 x .063 x .040 in Body, 5 Lead, .0375 in Pitch; RoHS: N; PinCount: 5; ComponentLink1Description: Manufacturer URL; ComponentLink1URL: http://www.national.com/; ComponentLink2Description: LM2831 Datasheet; ComponentLink2URL: http://www.national.com/ds/LM/LM2831.pdf; ComponentLink3Description: LM2831 Web Page; ComponentLink3URL: http://www.national.com/pf/LM/LM2831.html; ComponentLink4Description: MF05A Package Page; ComponentLink4URL: http://www.national.com/packaging/folders/mf05a.html
footprint MF05A_N (SOT23, 5-Leads, Body 2.9x1.6mm, Pitch 0.95mm, Lead Span 2.8mm, IPC Medium Density)
footprint MF05A_L (SOT23, 5-Leads, Body 2.9x1.6mm, Pitch 0.95mm, Lead Span 2.8mm, IPC High Density)
footprint MF05A_M (SOT23, 5-Leads, Body 2.9x1.6mm, Pitch 0.95mm, Lead Span 2.8mm, IPC Low Density)
pins: 1 SW (power), 2 GND (power), 3 FB (in), 4 EN (in), 5 VIN (power)

## LM2831YMF/NOPB
designator U?
High Frequency 1.5A Load - Step-Down DC-DC Regulator, 5-pin SOT-23, Pb-Free; PartNumber: LM2831YMF/NOPB; Manufacturer: National Semiconductor; PackageTopMarking: SKZB*XTT; PowerWise: N; CompType: Switcher; High-Reliability: Y; DatasheetVersion: Aug-2006; PackageVersion: revD, Aug-2008; PackageReference: MF05A; PackageDescription: Molded SOT-23, .115 x .063 x .040 in Body, 5 Lead, .0375 in Pitch; RoHS: Y; PinCount: 5; ComponentLink1Description: Manufacturer URL; ComponentLink1URL: http://www.national.com/; ComponentLink2Description: LM2831 Datasheet; ComponentLink2URL: http://www.national.com/ds/LM/LM2831.pdf; ComponentLink3Description: LM2831 Web Page; ComponentLink3URL: http://www.national.com/pf/LM/LM2831.html; ComponentLink4Description: MF05A Package Page; ComponentLink4URL: http://www.national.com/packaging/folders/mf05a.html
footprint MF05A_N (SOT23, 5-Leads, Body 2.9x1.6mm, Pitch 0.95mm, Lead Span 2.8mm, IPC Medium Density)
footprint MF05A_L (SOT23, 5-Leads, Body 2.9x1.6mm, Pitch 0.95mm, Lead Span 2.8mm, IPC High Density)
footprint MF05A_M (SOT23, 5-Leads, Body 2.9x1.6mm, Pitch 0.95mm, Lead Span 2.8mm, IPC Low Density)
pins: 1 SW (power), 2 GND (power), 3 FB (in), 4 EN (in), 5 VIN (power)

## LM2831YMFX
designator U?
High Frequency 1.5A Load - Step-Down DC-DC Regulator, 5-pin SOT-23; PartNumber: LM2831YMFX; Manufacturer: National Semiconductor; PackageTopMarking: SKZB*XTT; PowerWise: N; CompType: Switcher; High-Reliability: Y; DatasheetVersion: Aug-2006; PackageVersion: revD, Aug-2008; PackageReference: MF05A; PackageDescription: Molded SOT-23, .115 x .063 x .040 in Body, 5 Lead, .0375 in Pitch; RoHS: N; PinCount: 5; ComponentLink1Description: Manufacturer URL; ComponentLink1URL: http://www.national.com/; ComponentLink2Description: LM2831 Datasheet; ComponentLink2URL: http://www.national.com/ds/LM/LM2831.pdf; ComponentLink3Description: LM2831 Web Page; ComponentLink3URL: http://www.national.com/pf/LM/LM2831.html; ComponentLink4Description: MF05A Package Page; ComponentLink4URL: http://www.national.com/packaging/folders/mf05a.html
footprint MF05A_N (SOT23, 5-Leads, Body 2.9x1.6mm, Pitch 0.95mm, Lead Span 2.8mm, IPC Medium Density)
footprint MF05A_L (SOT23, 5-Leads, Body 2.9x1.6mm, Pitch 0.95mm, Lead Span 2.8mm, IPC High Density)
footprint MF05A_M (SOT23, 5-Leads, Body 2.9x1.6mm, Pitch 0.95mm, Lead Span 2.8mm, IPC Low Density)
pins: 1 SW (power), 2 GND (power), 3 FB (in), 4 EN (in), 5 VIN (power)

## LM2831YMFX/NOPB
designator U?
High Frequency 1.5A Load - Step-Down DC-DC Regulator, 5-pin SOT-23, Pb-Free; PartNumber: LM2831YMFX/NOPB; Manufacturer: National Semiconductor; PackageTopMarking: SKZB*XTT; PowerWise: N; CompType: Switcher; High-Reliability: Y; DatasheetVersion: Aug-2006; PackageVersion: revD, Aug-2008; PackageReference: MF05A; PackageDescription: Molded SOT-23, .115 x .063 x .040 in Body, 5 Lead, .0375 in Pitch; RoHS: Y; PinCount: 5; ComponentLink1Description: Manufacturer URL; ComponentLink1URL: http://www.national.com/; ComponentLink2Description: LM2831 Datasheet; ComponentLink2URL: http://www.national.com/ds/LM/LM2831.pdf; ComponentLink3Description: LM2831 Web Page; ComponentLink3URL: http://www.national.com/pf/LM/LM2831.html; ComponentLink4Description: MF05A Package Page; ComponentLink4URL: http://www.national.com/packaging/folders/mf05a.html
footprint MF05A_N (SOT23, 5-Leads, Body 2.9x1.6mm, Pitch 0.95mm, Lead Span 2.8mm, IPC Medium Density)
footprint MF05A_L (SOT23, 5-Leads, Body 2.9x1.6mm, Pitch 0.95mm, Lead Span 2.8mm, IPC High Density)
footprint MF05A_M (SOT23, 5-Leads, Body 2.9x1.6mm, Pitch 0.95mm, Lead Span 2.8mm, IPC Low Density)
pins: 1 SW (power), 2 GND (power), 3 FB (in), 4 EN (in), 5 VIN (power)

## LM2831YSD
designator U?
High Frequency 1.5A Load - Step-Down DC-DC Regulator, 6-pin LLP; PartNumber: LM2831YSD; Manufacturer: National Semiconductor; PackageTopMarking: ZXYTT*L194B; PowerWise: N; CompType: Switcher; High-Reliability: Y; DatasheetVersion: Aug-2006; PackageVersion: revA, Jul-2003; PackageReference: SDE06A; PackageDescription: LLP, Plastic, Dual, 3 x 3 x 0.8mm Body, 6 Lead, 0.95mm Pitch, No Pullback; RoHS: N; PinCount: 6; ComponentLink1Description: Manufacturer URL; ComponentLink1URL: http://www.national.com/; ComponentLink2Description: LM2831 Datasheet; ComponentLink2URL: http://www.national.com/ds/LM/LM2831.pdf; ComponentLink3Description: LM2831 Web Page; ComponentLink3URL: http://www.national.com/pf/LM/LM2831.html; ComponentLink4Description: SDE06A Package Page; ComponentLink4URL: http://www.national.com/packaging/folders/sde06a.html
footprint SDE06A_full (SON, 6-Leads, Body 3x3 mm, Pitch 0.95mm, Full Paste, NSC Recommended)
footprint SDE06A_quad (SON, 6-Leads, Body 3x3 mm, Pitch 0.95mm, Quad Paste, NSC Recommended)
pins: 1 FB (in), 2 GND (power), 3 SW (power), 4 VIND (power), 5 VINA (power), 6 EN (in), 7 DAP

## LM2831YSD/NOPB
designator U?
High Frequency 1.5A Load - Step-Down DC-DC Regulator, 6-pin LLP, Pb-Free; PartNumber: LM2831YSD/NOPB; Manufacturer: National Semiconductor; PackageTopMarking: ZXYTT*L194B; PowerWise: N; CompType: Switcher; High-Reliability: Y; DatasheetVersion: Aug-2006; PackageVersion: revA, Jul-2003; PackageReference: SDE06A; PackageDescription: LLP, Plastic, Dual, 3 x 3 x 0.8mm Body, 6 Lead, 0.95mm Pitch, No Pullback; RoHS: Y; PinCount: 6; ComponentLink1Description: Manufacturer URL; ComponentLink1URL: http://www.national.com/; ComponentLink2Description: LM2831 Datasheet; ComponentLink2URL: http://www.national.com/ds/LM/LM2831.pdf; ComponentLink3Description: LM2831 Web Page; ComponentLink3URL: http://www.national.com/pf/LM/LM2831.html; ComponentLink4Description: SDE06A Package Page; ComponentLink4URL: http://www.national.com/packaging/folders/sde06a.html
footprint SDE06A_full (SON, 6-Leads, Body 3x3 mm, Pitch 0.95mm, Full Paste, NSC Recommended)
footprint SDE06A_quad (SON, 6-Leads, Body 3x3 mm, Pitch 0.95mm, Quad Paste, NSC Recommended)
pins: 1 FB (in), 2 GND (power), 3 SW (power), 4 VIND (power), 5 VINA (power), 6 EN (in), 7 DAP

## LM2831YSDX
designator U?
High Frequency 1.5A Load - Step-Down DC-DC Regulator, 6-pin LLP; PartNumber: LM2831YSDX; Manufacturer: National Semiconductor; PackageTopMarking: ZXYTT*L194B; PowerWise: N; CompType: Switcher; High-Reliability: Y; DatasheetVersion: Aug-2006; PackageVersion: revA, Jul-2003; PackageReference: SDE06A; PackageDescription: LLP, Plastic, Dual, 3 x 3 x 0.8mm Body, 6 Lead, 0.95mm Pitch, No Pullback; RoHS: N; PinCount: 6; ComponentLink1Description: Manufacturer URL; ComponentLink1URL: http://www.national.com/; ComponentLink2Description: LM2831 Datasheet; ComponentLink2URL: http://www.national.com/ds/LM/LM2831.pdf; ComponentLink3Description: LM2831 Web Page; ComponentLink3URL: http://www.national.com/pf/LM/LM2831.html; ComponentLink4Description: SDE06A Package Page; ComponentLink4URL: http://www.national.com/packaging/folders/sde06a.html
footprint SDE06A_full (SON, 6-Leads, Body 3x3 mm, Pitch 0.95mm, Full Paste, NSC Recommended)
footprint SDE06A_quad (SON, 6-Leads, Body 3x3 mm, Pitch 0.95mm, Quad Paste, NSC Recommended)
pins: 1 FB (in), 2 GND (power), 3 SW (power), 4 VIND (power), 5 VINA (power), 6 EN (in), 7 DAP

## LM2831YSDX/NOPB
designator U?
High Frequency 1.5A Load - Step-Down DC-DC Regulator, 6-pin LLP, Pb-Free; PartNumber: LM2831YSDX/NOPB; Manufacturer: National Semiconductor; PackageTopMarking: ZXYTT*L194B; PowerWise: N; CompType: Switcher; High-Reliability: Y; DatasheetVersion: Aug-2006; PackageVersion: revA, Jul-2003; PackageReference: SDE06A; PackageDescription: LLP, Plastic, Dual, 3 x 3 x 0.8mm Body, 6 Lead, 0.95mm Pitch, No Pullback; RoHS: Y; PinCount: 6; ComponentLink1Description: Manufacturer URL; ComponentLink1URL: http://www.national.com/; ComponentLink2Description: LM2831 Datasheet; ComponentLink2URL: http://www.national.com/ds/LM/LM2831.pdf; ComponentLink3Description: LM2831 Web Page; ComponentLink3URL: http://www.national.com/pf/LM/LM2831.html; ComponentLink4Description: SDE06A Package Page; ComponentLink4URL: http://www.national.com/packaging/folders/sde06a.html
footprint SDE06A_full (SON, 6-Leads, Body 3x3 mm, Pitch 0.95mm, Full Paste, NSC Recommended)
footprint SDE06A_quad (SON, 6-Leads, Body 3x3 mm, Pitch 0.95mm, Quad Paste, NSC Recommended)
pins: 1 FB (in), 2 GND (power), 3 SW (power), 4 VIND (power), 5 VINA (power), 6 EN (in), 7 DAP

## LM2831ZMF
designator U?
High Frequency 1.5A Load - Step-Down DC-DC Regulator, 5-pin SOT-23; PartNumber: LM2831ZMF; Manufacturer: National Semiconductor; PackageTopMarking: SLAB*XTT; PowerWise: N; CompType: Switcher; High-Reliability: Y; DatasheetVersion: Aug-2006; PackageVersion: revD, Aug-2008; PackageReference: MF05A; PackageDescription: Molded SOT-23, .115 x .063 x .040 in Body, 5 Lead, .0375 in Pitch; RoHS: N; PinCount: 5; ComponentLink1Description: Manufacturer URL; ComponentLink1URL: http://www.national.com/; ComponentLink2Description: LM2831 Datasheet; ComponentLink2URL: http://www.national.com/ds/LM/LM2831.pdf; ComponentLink3Description: LM2831 Web Page; ComponentLink3URL: http://www.national.com/pf/LM/LM2831.html; ComponentLink4Description: MF05A Package Page; ComponentLink4URL: http://www.national.com/packaging/folders/mf05a.html
footprint MF05A_N (SOT23, 5-Leads, Body 2.9x1.6mm, Pitch 0.95mm, Lead Span 2.8mm, IPC Medium Density)
footprint MF05A_L (SOT23, 5-Leads, Body 2.9x1.6mm, Pitch 0.95mm, Lead Span 2.8mm, IPC High Density)
footprint MF05A_M (SOT23, 5-Leads, Body 2.9x1.6mm, Pitch 0.95mm, Lead Span 2.8mm, IPC Low Density)
pins: 1 SW (power), 2 GND (power), 3 FB (in), 4 EN (in), 5 VIN (power)

## LM2831ZMF/NOPB
designator U?
High Frequency 1.5A Load - Step-Down DC-DC Regulator, 5-pin SOT-23, Pb-Free; PartNumber: LM2831ZMF/NOPB; Manufacturer: National Semiconductor; PackageTopMarking: SLAB*XTT; PowerWise: N; CompType: Switcher; High-Reliability: Y; DatasheetVersion: Aug-2006; PackageVersion: revD, Aug-2008; PackageReference: MF05A; PackageDescription: Molded SOT-23, .115 x .063 x .040 in Body, 5 Lead, .0375 in Pitch; RoHS: Y; PinCount: 5; ComponentLink1Description: Manufacturer URL; ComponentLink1URL: http://www.national.com/; ComponentLink2Description: LM2831 Datasheet; ComponentLink2URL: http://www.national.com/ds/LM/LM2831.pdf; ComponentLink3Description: LM2831 Web Page; ComponentLink3URL: http://www.national.com/pf/LM/LM2831.html; ComponentLink4Description: MF05A Package Page; ComponentLink4URL: http://www.national.com/packaging/folders/mf05a.html
footprint MF05A_N (SOT23, 5-Leads, Body 2.9x1.6mm, Pitch 0.95mm, Lead Span 2.8mm, IPC Medium Density)
footprint MF05A_L (SOT23, 5-Leads, Body 2.9x1.6mm, Pitch 0.95mm, Lead Span 2.8mm, IPC High Density)
footprint MF05A_M (SOT23, 5-Leads, Body 2.9x1.6mm, Pitch 0.95mm, Lead Span 2.8mm, IPC Low Density)
pins: 1 SW (power), 2 GND (power), 3 FB (in), 4 EN (in), 5 VIN (power)

## LM2831ZMFX
designator U?
High Frequency 1.5A Load - Step-Down DC-DC Regulator, 5-pin SOT-23; PartNumber: LM2831ZMFX; Manufacturer: National Semiconductor; PackageTopMarking: SLAB*XTT; PowerWise: N; CompType: Switcher; High-Reliability: Y; DatasheetVersion: Aug-2006; PackageVersion: revD, Aug-2008; PackageReference: MF05A; PackageDescription: Molded SOT-23, .115 x .063 x .040 in Body, 5 Lead, .0375 in Pitch; RoHS: N; PinCount: 5; ComponentLink1Description: Manufacturer URL; ComponentLink1URL: http://www.national.com/; ComponentLink2Description: LM2831 Datasheet; ComponentLink2URL: http://www.national.com/ds/LM/LM2831.pdf; ComponentLink3Description: LM2831 Web Page; ComponentLink3URL: http://www.national.com/pf/LM/LM2831.html; ComponentLink4Description: MF05A Package Page; ComponentLink4URL: http://www.national.com/packaging/folders/mf05a.html
footprint MF05A_N (SOT23, 5-Leads, Body 2.9x1.6mm, Pitch 0.95mm, Lead Span 2.8mm, IPC Medium Density)
footprint MF05A_L (SOT23, 5-Leads, Body 2.9x1.6mm, Pitch 0.95mm, Lead Span 2.8mm, IPC High Density)
footprint MF05A_M (SOT23, 5-Leads, Body 2.9x1.6mm, Pitch 0.95mm, Lead Span 2.8mm, IPC Low Density)
pins: 1 SW (power), 2 GND (power), 3 FB (in), 4 EN (in), 5 VIN (power)

## LM2831ZMFX/NOPB
designator U?
High Frequency 1.5A Load - Step-Down DC-DC Regulator, 5-pin SOT-23, Pb-Free; PartNumber: LM2831ZMFX/NOPB; Manufacturer: National Semiconductor; PackageTopMarking: SLAB*XTT; PowerWise: N; CompType: Switcher; High-Reliability: Y; DatasheetVersion: Aug-2006; PackageVersion: revD, Aug-2008; PackageReference: MF05A; PackageDescription: Molded SOT-23, .115 x .063 x .040 in Body, 5 Lead, .0375 in Pitch; RoHS: Y; PinCount: 5; ComponentLink1Description: Manufacturer URL; ComponentLink1URL: http://www.national.com/; ComponentLink2Description: LM2831 Datasheet; ComponentLink2URL: http://www.national.com/ds/LM/LM2831.pdf; ComponentLink3Description: LM2831 Web Page; ComponentLink3URL: http://www.national.com/pf/LM/LM2831.html; ComponentLink4Description: MF05A Package Page; ComponentLink4URL: http://www.national.com/packaging/folders/mf05a.html
footprint MF05A_N (SOT23, 5-Leads, Body 2.9x1.6mm, Pitch 0.95mm, Lead Span 2.8mm, IPC Medium Density)
footprint MF05A_L (SOT23, 5-Leads, Body 2.9x1.6mm, Pitch 0.95mm, Lead Span 2.8mm, IPC High Density)
footprint MF05A_M (SOT23, 5-Leads, Body 2.9x1.6mm, Pitch 0.95mm, Lead Span 2.8mm, IPC Low Density)
pins: 1 SW (power), 2 GND (power), 3 FB (in), 4 EN (in), 5 VIN (power)

## LM2831ZSD
designator U?
High Frequency 1.5A Load - Step-Down DC-DC Regulator, 6-pin LLP; PartNumber: LM2831ZSD; Manufacturer: National Semiconductor; PackageTopMarking: ZXYTT*L195B; PowerWise: N; CompType: Switcher; High-Reliability: Y; DatasheetVersion: Aug-2006; PackageVersion: revA, Jul-2003; PackageReference: SDE06A; PackageDescription: LLP, Plastic, Dual, 3 x 3 x 0.8mm Body, 6 Lead, 0.95mm Pitch, No Pullback; RoHS: N; PinCount: 6; ComponentLink1Description: Manufacturer URL; ComponentLink1URL: http://www.national.com/; ComponentLink2Description: LM2831 Datasheet; ComponentLink2URL: http://www.national.com/ds/LM/LM2831.pdf; ComponentLink3Description: LM2831 Web Page; ComponentLink3URL: http://www.national.com/pf/LM/LM2831.html; ComponentLink4Description: SDE06A Package Page; ComponentLink4URL: http://www.national.com/packaging/folders/sde06a.html
footprint SDE06A_full (SON, 6-Leads, Body 3x3 mm, Pitch 0.95mm, Full Paste, NSC Recommended)
footprint SDE06A_quad (SON, 6-Leads, Body 3x3 mm, Pitch 0.95mm, Quad Paste, NSC Recommended)
pins: 1 FB (in), 2 GND (power), 3 SW (power), 4 VIND (power), 5 VINA (power), 6 EN (in), 7 DAP